# Altium footprint library PCB_OpenT12_精简_2021-10-27.PcbLib: 36 footprints (part 3 of 3)
Each footprint in its own frame and in the unit in brackets; x right, y up, seen from the top. Pads: shape width x height; smd on the part's side, far side on the other; paste and mask are expansions set on the pad; w line width, h text height; cw(c..) or ccw(c..) is an arc to the next point about the centre after c.
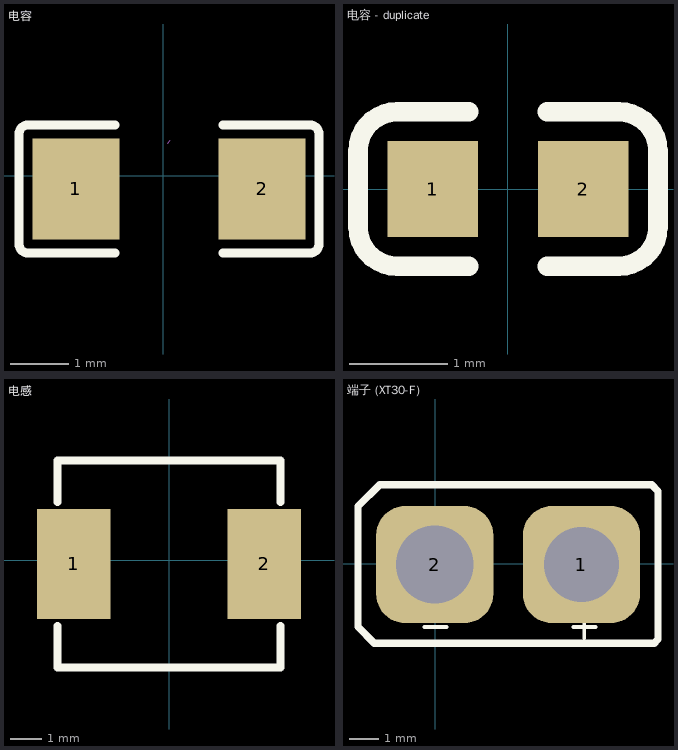
[diagram p2: the footprints below, top view; thin cyan lines are the x and y axes]

## 电容 [mm] "1206"
pads (2):
  rect 1.485x1.728 smd: 1(-1.493,-0.228) 2(1.692,-0.228)
Top Overlay:
  lines w0.152: -0.826,-1.321 -2.311,-1.321 cw(c-2.311,-1.168) -2.464,-1.168 -2.464,0.712 cw(c-2.311,0.712) -2.311,0.864 -0.826,0.864 ; 1.026,-1.321 2.511,-1.321 ccw(c2.511,-1.168) 2.663,-1.168 2.663,0.712 ccw(c2.511,0.712) 2.511,0.864 1.026,0.864
Top Paste:
  region: 0.95,-0.992 0.95,-0.622 1.05,-0.522 1.355,-0.522 1.455,-0.422 1.455,-0.034 1.355,0.066 1.05,0.066 0.95,0.166 0.95,0.536 1.05,0.636 2.335,0.636 2.435,0.536 2.435,-0.992 2.335,-1.092 1.05,-1.092
  region: -0.75,-0.992 -0.75,-0.622 -0.85,-0.522 -1.155,-0.522 -1.255,-0.422 -1.255,-0.034 -1.155,0.066 -0.85,0.066 -0.75,0.166 -0.75,0.536 -0.85,0.636 -2.135,0.636 -2.235,0.536 -2.235,-0.992 -2.135,-1.092 -0.85,-1.092
Mechanical 15:
  lines w0.003: 0.074,0.556 0.125,0.607

## 电容 - duplicate [mm]
pads (2):
  rect 0.93x0.98 smd: 1(-0.77,0) 2(0.77,0)
Top Overlay:
  lines w0.2: -0.4,-0.79 -1.135,-0.79 cw(c-1.135,-0.39) -1.535,-0.39 -1.535,0.39 cw(c-1.135,0.39) -1.135,0.79 -0.4,0.79 ; 0.4,-0.79 1.135,-0.79 ccw(c1.135,-0.39) 1.535,-0.39 1.535,0.39 ccw(c1.135,0.39) 1.135,0.79 0.4,0.79
3D body "User Library-0603 SMD Capacitor.STEP": height 0.3, standoff 0, extent -0.8,-0.4 0.8,0.4

## 电感 [mm] "220"
pads (2):
  rect 2.35x3.5 smd: 1(-3.035,-0.127) 2(3.035,-0.127)
Top Overlay:
  lines w0.254: -3.55,-2.108 -3.55,-3.427 3.55,-3.427 3.55,-2.108 ; -3.55,1.854 -3.55,3.173 3.55,3.173 3.55,1.854

## 端子 (XT30-F） [mm]
pads (2):
  rrect50% 4x4 hole 2.56: 1(4.981,-0.026)
  rrect50% 4x4 hole 2.65: 2(-0.019,-0.026)
Top Overlay:
  lines w0.127: -0.381,-2.159 0.381,-2.159 ; 4.699,-2.159 5.461,-2.159 ; 5.08,-2.54 5.08,-1.778
  lines w0.254: 7.59,-2.363 7.59,2.474 7.372,2.692 -1.899,2.692 -2.635,1.955 -2.635,-2.149 -2.077,-2.708 6.57,-2.708 7.459,-2.708 7.59,-2.577 7.59,-2.363
3D body "User Library-XT30.STEP": height 12.6, standoff -2.9, extent -2.787,-2.633 7.613,2.667